# Altium footprint library SparkFun-Connectors.PCBLIB: 305 footprints (part 15 of 20)
Each footprint in its own frame and in the unit in brackets; x right, y up, seen from the top. Pads: shape width x height; smd on the part's side, far side on the other; paste and mask are expansions set on the pad; w line width, h text height; cw(c..) or ccw(c..) is an arc to the next point about the centre after c.
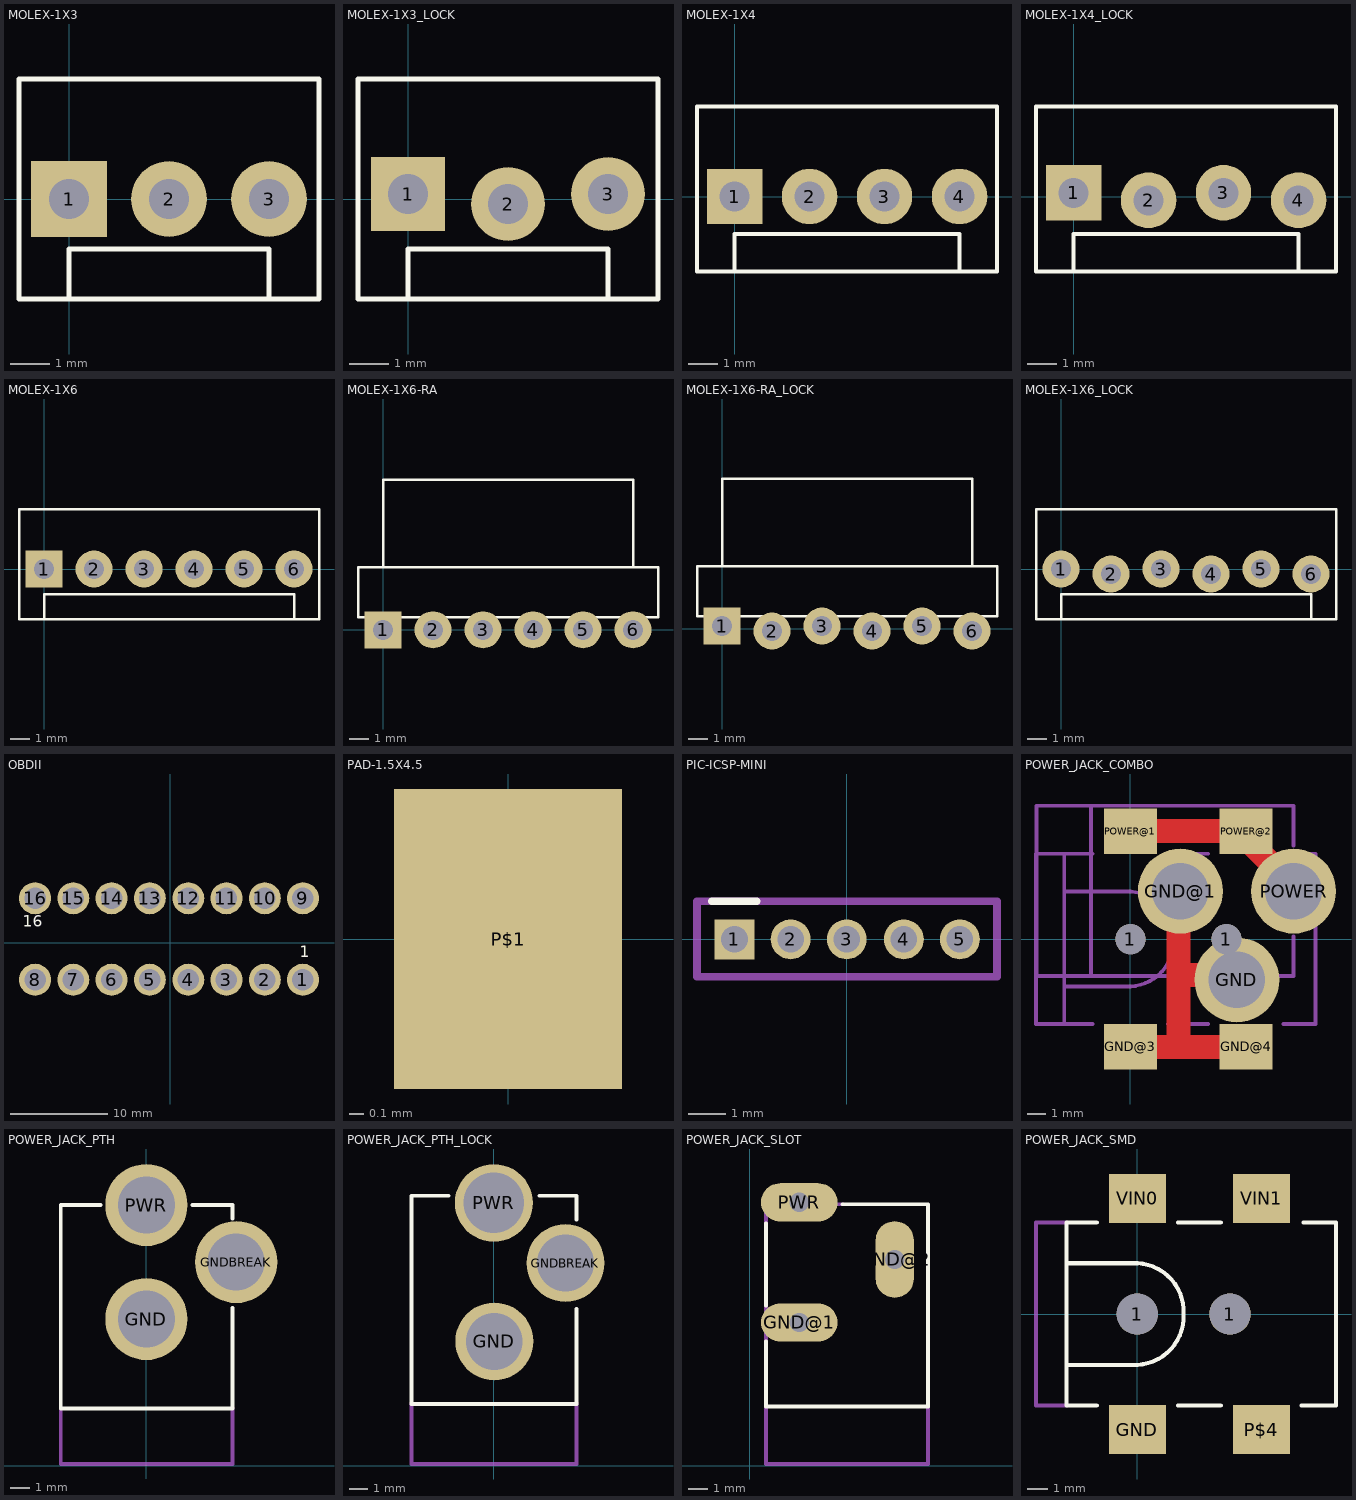
[diagram p14: the footprints below, top view; thin cyan lines are the x and y axes]

## MOLEX-1X3 [mil]
pads (3):
  rect 76x76 hole 40: 1(0,0)
  round 76 hole 40: 2(100,0) 3(200,0)
Top Overlay:
  lines w5: 0,-100 200,-100 ; 0,-100 -50,-100 -50,120 250,120 250,-100 200,-100 ; 0,-100 0,-50 200,-50 200,-100

## MOLEX-1X3_LOCK [mil]
pads (3):
  rect 74x74 hole 40: 1(0,5)
  round 74 hole 40: 2(100,-5) 3(200,5)
Top Overlay:
  lines w5: 0,-100 200,-100 ; 0,-100 -50,-100 -50,120 250,120 250,-100 200,-100 ; 0,-100 0,-50 200,-50 200,-100
Mechanical 16:
  rectangle: -11.5,-11.5 12,12
  rectangle: 89,-11.5 112,12
  rectangle: 189,-11.5 212,12

## MOLEX-1X4 [mil]
pads (4):
  rect 74x74 hole 40: 1(0,0)
  round 74 hole 40: 2(100,0) 3(200,0) 4(300,0)
Top Overlay:
  lines w5: 0,-100 300,-100 ; 0,-100 -50,-100 -50,120 350,120 350,-100 300,-100 ; 0,-100 0,-50 300,-50 300,-100

## MOLEX-1X4_LOCK [mil]
pads (4):
  rect 74x74 hole 40: 1(0,5)
  round 74 hole 40: 2(100,-5) 3(200,5) 4(300,-5)
Top Overlay:
  lines w5: 0,-100 300,-100 ; 0,-100 -50,-100 -50,120 350,120 350,-100 300,-100 ; 0,-100 0,-50 300,-50 300,-100

## MOLEX-1X6 [mil]
pads (6):
  rect 74x74 hole 40: 1(0,0)
  round 74 hole 40: 2(100,0) 3(200,0) 4(300,0) 5(400,0) 6(500,0)
Top Overlay:
  lines w5: 0,-100 500,-100 ; 0,-100 -50,-100 -50,120 550,120 550,-100 500,-100 ; 0,-100 0,-50 500,-50 500,-100

## MOLEX-1X6-RA [mil]
pads (6):
  rect 74x74 hole 40: 1(0,0)
  round 74 hole 40: 2(100,0) 3(200,0) 4(300,0) 5(400,0) 6(500,0)
Top Overlay:
  lines w5: 0,125 500,125 ; 0,125 -50,125 -50,25 550,25 550,125 500,125 ; 0,125 0,300 500,300 500,125

## MOLEX-1X6-RA_LOCK [mil]
pads (6):
  rect 74x74 hole 40: 1(0,5)
  round 74 hole 40: 2(100,-5) 3(200,5) 4(300,-5) 5(400,5) 6(500,-5)
Top Overlay:
  lines w5: 0,125 500,125 ; 0,125 -50,125 -50,25 550,25 550,125 500,125 ; 0,125 0,300 500,300 500,125

## MOLEX-1X6_LOCK [mil]
pads (6):
  round 74 hole 40: 1(0,0) 2(100,-10) 3(200,0) 4(300,-10) 5(400,0) 6(500,-10)
Top Overlay:
  lines w5: 0,-100 500,-100 ; 0,-100 -50,-100 -50,120 550,120 550,-100 500,-100 ; 0,-100 0,-50 500,-50 500,-100
Mechanical 16:
  rectangle: -11.5,-16.5 12,7
  rectangle: 89,-16.5 112,7
  rectangle: 189,-16.5 212,7
  rectangle: 289,-16.5 312,7
  rectangle: 389,-16.5 412,7
  rectangle: 489,-16.5 512,7

## OBDII [mil]
pads (16):
  round 130.5 hole 87: 1(539,-150) 2(384,-150) 3(228,-150) 4(73,-150) 5(-83.46,-150) 6(-238.98,-150) 7(-394.49,-150) 8(-550,-150) 9(539,181) 10(384,181) 11(228,181) 12(73,181) 13(-83.46,181) 14(-238.98,181) 15(-394.49,181) 16(-550,181)
Top Overlay:
  text "1" at 525,-75 h77.5
  text "16" at -600,50 h77.5

## PAD-1.5X4.5 [mil]
pads (1):
  rect 60x79 smd: P$1(0,0)

## PIC-ICSP-MINI [mil]
pads (5):
  rect 42x42 hole 28: 1(-118.11,0)
  round 42 hole 28: 2(-59.06,0) 3(0,0) 4(60,0) 5(119,0)
Top Overlay:
  lines w8: -141.73,40 -94.49,40
Mechanical 16:
  lines w8: -157.48,-39.37 -157.48,40 158,40 158,-39.37 -157.48,-39.37

## POWER_JACK_COMBO [mil]
pads (9):
  round 63 hole 63: 1(0,0) 1(200,0)
  round 177 hole 118: GND(222,-85.04) GND@1(104,100) POWER(340,100)
  rect 111x95 smd: GND@3(0,-224.41) GND@4(241,-224.41) POWER@1(0,225) POWER@2(241,225)
Top Layer:
  lines w50: 0,-225 100,-225 ; 0,225 250,225 250,200 350,100 ; 100,100 100,-75 ; 225,-75 100,-75 ; 250,-225 100,-225 ; 100,-225 100,-75
Mechanical 16:
  lines w8: -78.74,-177.17 -137.8,-177.17 ; -78.74,178 -137.8,178 ; 79,-177.17 162,-177.17 ; 79,178 162,178 ; 127,-77.17 -81.89,-77.17 ; 312,-77.17 340,-77.17 340,6 ; 319,-177.17 386,-177.17 386,178 323,178 ; 340,195 340,278 -81.89,278 ; -137.8,-177.17 -196.85,-177.17 -196.85,178 -137.8,178 ; -137.8,-177.17 -137.8,-98.43 ; -137.8,-98.43 -137.8,99 ; -137.8,-98.43 0,-98.43 ccw(c-4.21,-4.21) 90,0 ccw(c-4.5,4.5) 0,99 -137.8,99 ; -137.8,99 -137.8,178 ; -81.89,-77.17 -196.06,-77.17 -196.06,278 -81.89,278 ; -81.89,-77.17 -81.89,278

## POWER_JACK_PTH [mil]
pads (3):
  round 170 hole 118: GND(0,304) GNDBREAK(186,422) PWR(0,540)
Top Overlay:
  lines w8: -94.49,540 -177.17,540 -177.17,119 178,119 178,327 ; 95,540 178,540 178,512
Mechanical 16:
  lines w8: -177.17,119 -177.17,4 178,4 178,119

## POWER_JACK_PTH_LOCK [mil]
pads (3):
  round 162 hole 118: GND(1,259) GNDBREAK(149,422)
  round 162 hole 126: PWR(0,547)
Top Overlay:
  lines w8: -94.49,562 -171.17,562 -171.17,129 172,129 172,327 ; 95,562 172,562 172,512
Mechanical 16:
  region: 58.25,528.25 58.25,546.75 -56.75,546.75 -56.75,528.25
  region: 48.25,291.25 48.25,302.75 -47.75,302.75 -47.75,291.25
  region: 187,469 176,469 176,373 187,373
  lines w8: -171.17,130 -171.17,4 172,4 172,130

## POWER_JACK_SLOT [mil]
pads (3):
  oval 158x79 hole 40: GND@1(102,296) PWR(102,544)
  oval 79x158 hole 40: GND@2(299,426)
Top Overlay:
  lines w8: 33,257 33,123 368,123 ; 33,331 33,500 ; 191,540 368,540 368,123 ; 366,123 368,123
Mechanical 11:
  lines w0: 39,544 165,544 ; 39,544 cw(c58.5,543.5) 59,563 145,563 cw(c145.5,543.5) 165,544 ; 39,544 ccw(c59,544) 59,524 145,524 ccw(c145,544) 165,544 ; 39,296 cw(c58.5,295.5) 59,315 145,315 cw(c145.5,295.5) 165,296 cw(c145,296) 145,276 59,276 cw(c59,296) 39,296 ; 279,382 ccw(c298.5,382.5) 299,363 ccw(c299.5,382.5) 319,382 319,469 ccw(c299,469) 299,489 ccw(c299,469) 279,469 279,382
Mechanical 16:
  lines w8: 33,123 33,4 368,4 368,123 ; 33,258 33,331 ; 33,500 33,540 191,540

## POWER_JACK_SMD [mil]
pads (6):
  round 80 hole 80: 1(0,0) 1(180,0)
  rect 111x95 smd: GND(0,-224.41) P$4(241,-224.41) VIN0(0,225) VIN1(241,225)
Top Overlay:
  lines w8: -78.74,-177.17 -137.8,-177.17 -137.8,-98.43 ; -78.74,178 -137.8,178 -137.8,99 ; 79,-177.17 162,-177.17 ; 79,178 162,178 ; 319,-177.17 386,-177.17 386,178 323,178 ; -137.8,-98.43 -137.8,99 ; -137.8,-98.43 0,-98.43 ccw(c-4.21,-4.21) 90,0 ccw(c-4.5,4.5) 0,99 -137.8,99
Mechanical 16:
  lines w8: -137.8,-177.17 -196.85,-177.17 -196.85,178 -137.8,178